# Altium footprint library 1N5822.PcbLib: 1 footprints
Each footprint in its own frame and in the unit in brackets; x right, y up, seen from the top. Pads: shape width x height; smd on the part's side, far side on the other; paste and mask are expansions set on the pad; w line width, h text height; cw(c..) or ccw(c..) is an arc to the next point about the centre after c.
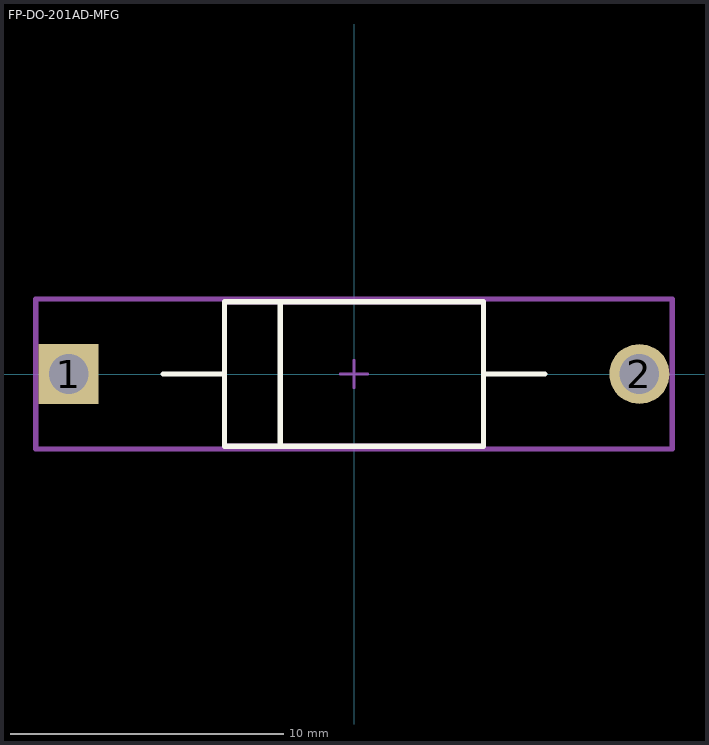
[diagram p0: the footprint, top view; thin cyan lines are the x and y axes]

## FP-DO-201AD-MFG [mm]
pads (2):
  rect 2.2x2.2 hole 1.45 paste-1000 mask+0: 1(-10.47,0)
  round 2.2 hole 1.45 paste-1000 mask+0: 2(10.47,0)
Top Overlay:
  lines w0.2: -7,0 -4.75,0 ; -2.7,-2.5 -2.7,2.5 ; 4.75,0 7,0 ; -4.75,-2.65 -4.75,2.65 4.75,2.65 4.75,-2.65 -4.75,-2.65
Top Assembly:
  lines w0.2: -11.67,-2.75 -11.67,2.75 11.67,2.75 11.67,-2.75 -11.67,-2.75
  text ".Designator" at 0,0.188 h1
Top 3D Body:
  lines w0.2: -4.75,-2.65 -4.75,2.65 4.75,2.65 4.75,-2.65 -4.75,-2.65
Top Courtyard:
  lines w0.2: -11.67,-2.75 -11.67,2.75 11.67,2.75 11.67,-2.75 -11.67,-2.75
Top Component Center:
  lines w0.1: -0.5,0 0.5,0 ; 0,-0.5 0,0.5
3D body "Diode_STMicroelectronics_1N5822_eec.STEP": height 0.25, standoff 0, extent -11.67,-2.75 11.67,2.75